# Altium schematic symbol library power_schi.SchLib: 20 symbols
Pins are listed as number, name and electrical type; pins without a type are passive.

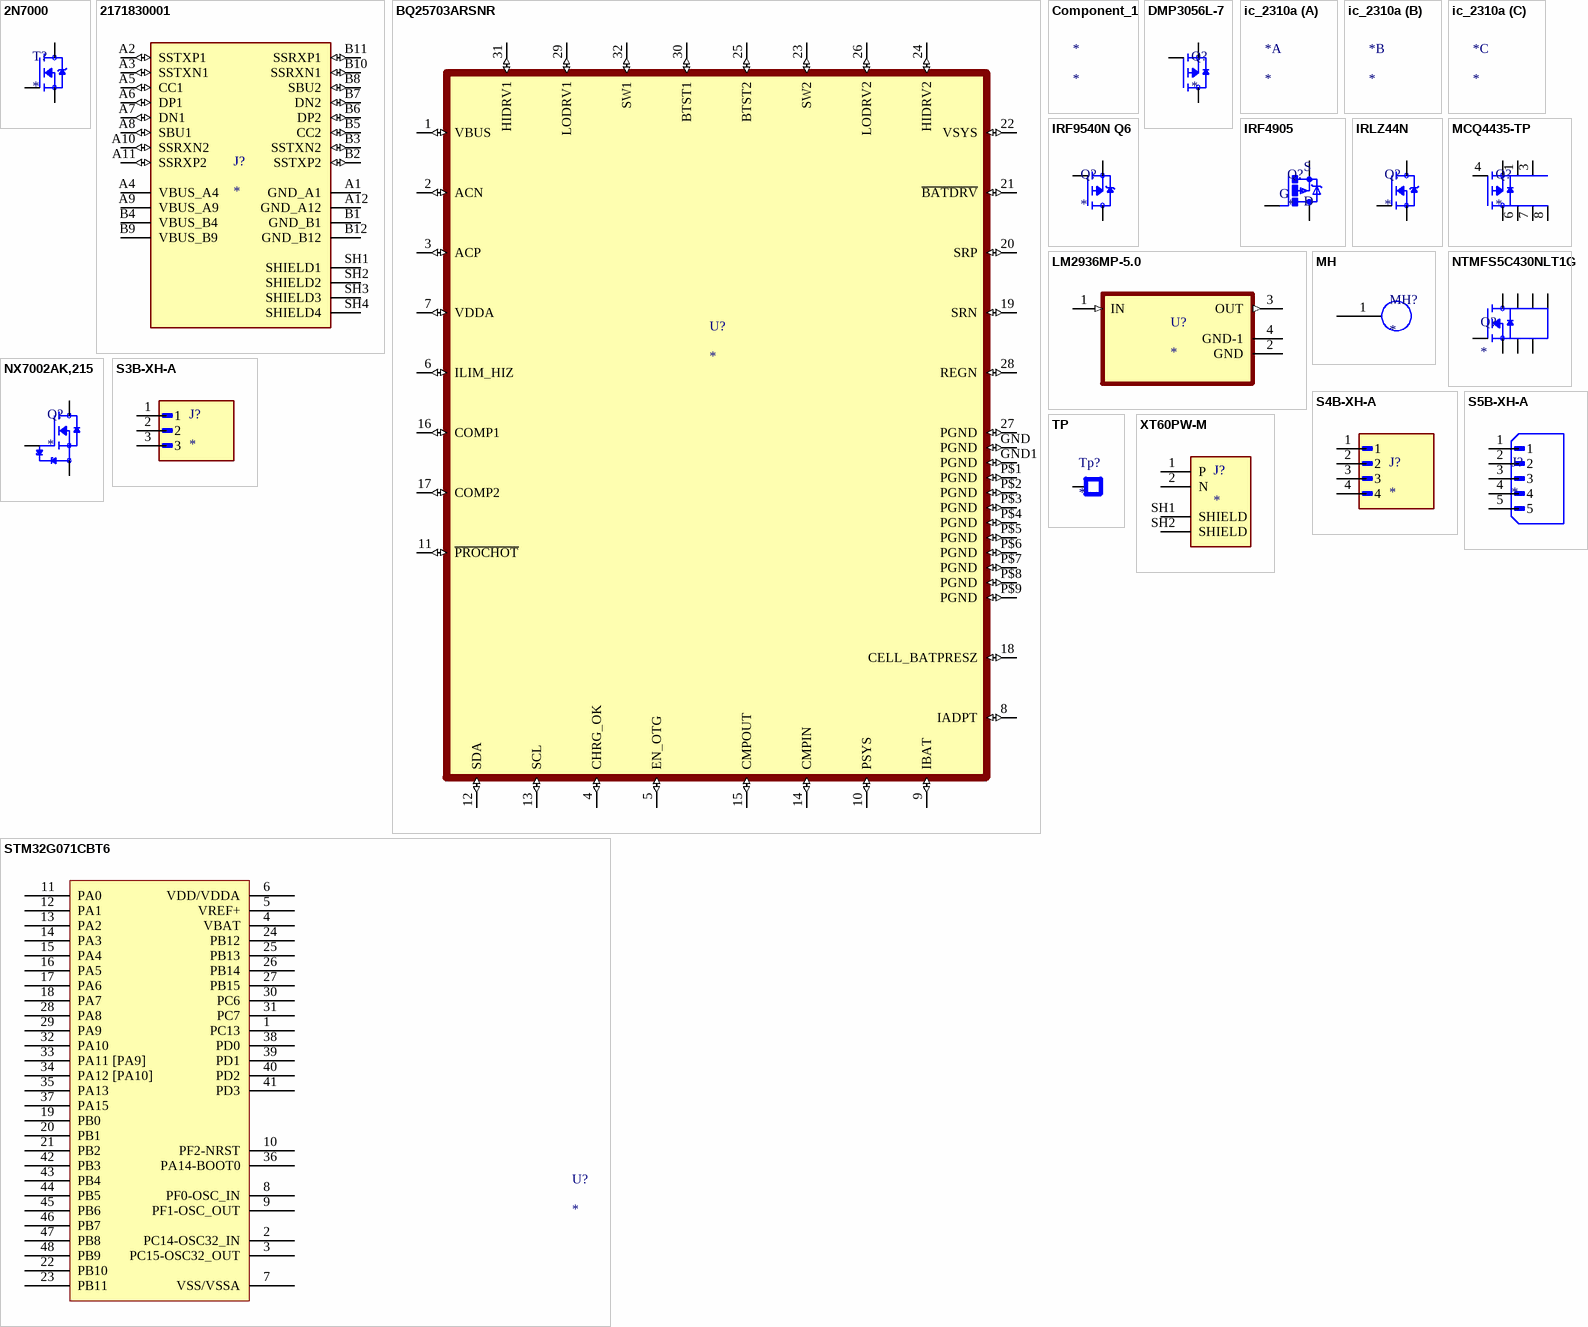
[diagram p0: symbols 2N7000 to XT60PW-M]

## 2N7000
designator T?
N-Channel 60 V 200mA (Ta) 400mW (Ta) Through Hole TO-92-3; MF: onsemi; MP: 2N7000; SnapEDA_Link: https://www.snapeda.com/parts/2N7000/Onsemi/view-part/?ref=snap; Package: E-PKG AXIAL-LEADED-2 ON Semiconductor; Value: *; Check_prices: https://www.snapeda.com/parts/2N7000/Onsemi/view-part/?ref=eda
footprint TO92
pins: 1 S, 2 G, 3 D

## 2171830001
designator J?
MF: {'manufacturer': u'Molex'}; MP: 2171830001; Package: None; Price: None; Value: *; Availability: Unavailable
footprint MOLEX_2171830001
pins: A1 GND_A1 (power), A2 SSTXP1 (io), A3 SSTXN1 (io), A4 VBUS_A4 (power), A5 CC1 (io), A6 DP1 (io), A7 DN1 (io), A8 SBU1 (io), A9 VBUS_A9 (power), A10 SSRXN2 (io), A11 SSRXP2 (io), A12 GND_A12 (power), B1 GND_B1 (power), B2 SSTXP2 (io), B3 SSTXN2 (io), B4 VBUS_B4 (power), B5 CC2 (io), B6 DP2 (io), B7 DN2 (io), B8 SBU2 (io), B9 VBUS_B9 (power), B10 SSRXN1 (io), B11 SSRXP1 (io), B12 GND_B12 (power), SH1 SHIELD1, SH2 SHIELD2, SH3 SHIELD3, SH4 SHIELD4

## BQ25703ARSNR
designator U?
MCU 32-bit ARM Cortex M0+ RISC 128KB Flash 1.8V/2.5V/3.3V 48-Pin LQFP Tray; Manufacturer: STMicroelectronics; Manufacturer Part Number: STM32G071CBT6; MF: Texas Instruments; MP: BQ25703ARSNR; ADC Channels (Resolution): 14-Ch 12-Bit; Core Architecture: ARM Cortex-M0+; DAC Channels (Resolution): 2-Ch 12-Bit; Data Bus Width: 32b; EEPROM Memory Size: 0B; Frequency: 64MHz; Interface: I2S; Clock Frequency: 48MHz; Max Junction Temperature (Tj): 105°C; Max Supply Current: 7mA; Max Supply Voltage: 3.6V; Min Supply Voltage: 1.7V; Number of A/D Converters: 1; Number of ADC Channels: 17; Number of Channels: 14; Number of D/A Converters: 2; Number of I/Os: 5; Number of Interrupts: 44; Number of Timers/Counters: 12; Number of UART Channels: 0; Number of USART Channels: 4; Operating Supply Voltage: 1.8V; Peripherals: POR, PWM, WDT; RAM Size: 36kB; SnapEDA_Link: https://www.snapeda.com/parts/BQ25703ARSNR/Texas+Instruments/view-part/?ref=snap; Package: WQFN-32 Texas Instruments; Value: *; Check_prices: https://www.snapeda.com/parts/BQ25703ARSNR/Texas+Instruments/view-part/?ref=eda; Supplier: Avnet; Supplier Part Number: 84AC2899; RoHS: Compliant; Category: Microcontrollers; Stock: 1757; Pricing: 1=3.97, 10=3.29, 25=3.08, 50=2.97, 100=2.86, 250=2.76, 500=2.69 (USD); Ambient Temperature Range High: 85°C; Case/Package: LFQFP; China RoHS: Compliant; Country of Origin: Mainland China; Export Control Classification Number (ECCN) Code: 3A991.A.2; Flash Memory Size: 128kB; Height: 1.6mm; Height - Seated (Max): 1.6mm; Harmonized Tariff Schedule (HTS) Code: 8542.31.00.25; Introduction Date: 2019-03-07; Length: 7mm; Lifecycle Status: Production; Max Operating Temperature: 85°C; Memory Size: 128kB; Memory Format: FLASH; Min Operating Temperature: -40°C; Number of I2C Channels: 2; Number of SPI Channels: 2; Number of Terminals: 48; Number of USB Channels: 2; REACH SVHC: Yes; Schedule B: 8542310000, 8542310000|8542310000, 8542310000|8542310000|8542310000|8542310000|8542310000; Terminal Pitch: 500µm; Width: 7mm; ComponentLink1URL: https://datasheet.octopart.com:443/STM32G071CBT6-STMicroelectronics-datasheet-159144893.pdf?src-supplier=IHS; ComponentLink1Description: https://datasheet.octopart.com:443/STM32G071CBT6-STMicroelectronics-datasheet-159144893.pdf?src-supplier=IHS; ComponentLink2URL: https://datasheet.octopart.com:443/STM32G071CBT6-STMicroelectronics-datasheet-132344621.pdf?src-supplier=ODG+(Origin+Data+Global); ComponentLink2Description: https://datasheet.octopart.com:443/STM32G071CBT6-STMicroelectronics-datasheet-132344621.pdf?src-supplier=ODG+(Origin+Data+Global); ComponentLink3URL: https://datasheet.octopart.com:443/STM32G071CBT6-STMicroelectronics-datasheet-130125765.pdf?src-supplier=element14+APAC; ComponentLink3Description: https://datasheet.octopart.com:443/STM32G071CBT6-STMicroelectronics-datasheet-130125765.pdf?src-supplier=element14+APAC
footprint BQ25703A_QFN-32
pins: 1 VBUS (io), 2 ACN (io), 3 ACP (io), 4 CHRG_OK (io), 5 EN_OTG (io), 6 ILIM_HIZ (io), 7 VDDA (io), 8 IADPT (io), 9 IBAT (io), 10 PSYS (io), 11 ~{PROCHOT} (io), 12 SDA (io), 13 SCL (io), 14 CMPIN (io), 15 CMPOUT (io), 16 COMP1 (io), 17 COMP2 (io), 18 CELL_BATPRESZ (io), 19 SRN (io), 20 SRP (io), 21 ~{BATDRV} (io), 22 VSYS (io), 23 SW2 (io), 24 HIDRV2 (io), 25 BTST2 (io), 26 LODRV2 (io), 27 PGND (io), 28 REGN (io), 29 LODRV1 (io), 30 BTST1 (io), 31 HIDRV1 (io), 32 SW1 (io), GND PGND (io), GND1 PGND (io), P$1 PGND (io), P$2 PGND (io), P$3 PGND (io), P$4 PGND (io), P$5 PGND (io), P$6 PGND (io), P$7 PGND (io), P$8 PGND (io), P$9 PGND (io)

## Component_1
designator *

## DMP3056L-7
designator Q?
DMP3056L Series 30 V 4.3 A P-Channel Enhancement Mode Mosfet - SOT-23-3; Manufacturer: Diodes Inc.; Manufacturer Part Number: DMP3056L-7; Continuous Drain Current (ID): 4.3A; Drain to Source Breakdown Voltage: -30V; Drain to Source Resistance: 50mΩ; Gate to Source Voltage (Vgs): 25V; Input Capacitance: 642pF; Max Junction Temperature (Tj): 150°C; Max Power Dissipation: 1.38W; Min Breakdown Voltage: 30V; Number of Channels: 1; Turn-Off Delay Time: 35.2ns; Turn-On Delay Time: 4.9ns; Supplier: Future Electronics; Supplier Part Number: DMP3056L-7; RoHS: Compliant; Category: MOSFETs; Stock: 498000; Pricing: 3000=0.0788, 6000=0.0775, 12000=0.0763, 15000=0.0758, 45000=0.0734 (USD); Case/Package: TO-236-3; China RoHS: Compliant; Country of Origin: Mainland China; Drain to Source Voltage (Vdss): -30V; Export Control Classification Number (ECCN) Code: EAR99; Height: 1.1mm; Introduction Date: 2015-01-05; Lifecycle Status: Production; Max Operating Temperature: 150°C; Min Operating Temperature: -55°C; Mounting Technology: Surface Mount; Number of Elements: 1; Number of Terminals: 3; Power Dissipation: 1.38W; Rds On Max: 50mΩ; REACH SVHC: Yes; Schedule B: 8541290080, 8541290080|8541290080|8541290080|8541290080|8541290080; ComponentLink1URL: https://datasheet.octopart.com:443/DMP3056L-7-Diodes-Inc.-datasheet-180553680.pdf?src-supplier=IHS; ComponentLink1Description: https://datasheet.octopart.com:443/DMP3056L-7-Diodes-Inc.-datasheet-180553680.pdf?src-supplier=IHS; ComponentLink2URL: https://datasheet.octopart.com:443/DMP3056L-7-Diodes-Inc.-datasheet-86509915.pdf?src-supplier=Diodes+Inc+SCT; ComponentLink2Description: https://datasheet.octopart.com:443/DMP3056L-7-Diodes-Inc.-datasheet-86509915.pdf?src-supplier=Diodes+Inc+SCT; ComponentLink3URL: https://sigma.octopart.com:443/138706058/technical_drawing/Diodes-Inc.-DMP3056L-7.pdf?src-supplier=Diodes+Inc+SCT; ComponentLink3Description: https://sigma.octopart.com:443/138706058/technical_drawing/Diodes-Inc.-DMP3056L-7.pdf?src-supplier=Diodes+Inc+SCT
footprint DMP3056L-7
pins: 1 G, 2 S, 3 D

## ic_2310a
designator *

## IRF4905
designator Q?
P-Channel 55 V 74A (Tc) 200W (Tc) Through Hole TO-220AB; MF: Infineon / IR; MP: IRF4905; SnapEDA_Link: https://www.snapeda.com/parts/IRF4905/Infineon/view-part/?ref=snap; Package: TO-263-3 Infineon / IR; Value: *; Check_prices: https://www.snapeda.com/parts/IRF4905/Infineon/view-part/?ref=eda
footprint TO220BH
pins: D, G, S

## IRF9540N Q6
designator Q?
P-Channel 100 V 23A (Tc) 3.1W (Ta), 110W (Tc); MF: Infineon Technologies; MP: IRF9540N; Value: *; Purchase-URL: https://pricing.snapeda.com/search/part/IRF9540N/?ref=eda; Package: TO-220 Infineon; Check_prices: https://www.snapeda.com/parts/IRF9540N/Infineon+Technologies/view-part/?ref=eda; SnapEDA_Link: https://www.snapeda.com/parts/IRF9540N/Infineon+Technologies/view-part/?ref=snap; Price: None; Availability: In Stock
footprint TO254P1041X444X1930-3
pins: 1 G, 2 D, 3 S

## IRLZ44N
designator Q?
N-Channel 55 V 47A (Tc) 3.8W (Ta), 110W (Tc) Surface Mount D2PAK; MP: IRLZ44N; MF: Infineon / IR; Package: TO-220-3 Infineon / IR; Availability: Not in stock; Value: *; Check_prices: https://www.snapeda.com/parts/IRLZ44N/Infineon/view-part/?ref=eda; Price: None; SnapEDA_Link: https://www.snapeda.com/parts/IRLZ44N/Infineon/view-part/?ref=snap
footprint TO254P1054X469X1930-3
pins: 1 G, 2 D, 3 S

## LM2936MP-5.0
designator U?
50-mA, 60-V, low-IQ, low-dropout voltage regulator with reverse voltage protection 4-SOT-223 -40 to 125; MF: Texas Instruments; MP: LM2936MP-5.0; SnapEDA_Link: https://www.snapeda.com/parts/LM2936MP-5.0/Texas+Instruments/view-part/?ref=snap; Package: SOT-223-4 Texas Instruments; Value: *; Check_prices: https://www.snapeda.com/parts/LM2936MP-5.0/Texas+Instruments/view-part/?ref=eda
footprint SOT230P700X180-4N
pins: 1 IN (in), 2 GND (power), 3 OUT (out), 4 GND-1 (power)

## MCQ4435-TP
designator Q?
Power Field-Effect Transistor, 9.1A I(D), 30V, 0.035ohm, 1-Element, P-Channel, Silicon, Metal-oxide Semiconductor FET; Manufacturer: MCC; Manufacturer Part Number: MCQ4435-TP; Drain to Source Resistance: 35mΩ; Max Power Dissipation: 1.4W; Number of Elements: 1; Supplier: DigiKey; Supplier Part Number: MCQ4435-TPMSCT-ND; RoHS: Compliant; Category: MOSFETs; Stock: 53319; Pricing: 1=1.25, 10=0.782, 100=0.5158, 500=0.40122, 1000=0.36432, 2000=0.33354 (USD); China RoHS: Compliant; Continuous Drain Current (ID): 9.1A; Country of Origin: Mainland China; Export Control Classification Number (ECCN) Code: EAR99; Introduction Date: 2016-10-10; Lifecycle Status: Production; Max Operating Temperature: 150°C; Min Breakdown Voltage: 30V; Min Operating Temperature: -55°C; Number of Terminals: 8; REACH SVHC: Yes
footprint MCQ4435-TP
pins: 1 D, 2 S, 3 D, 3 D, 4 G, 6 D, 7 D, 8 D

## MH
designator MH?
footprint MH
pins: 1

## NTMFS5C430NLT1G
designator Q?
Single N−Channel Power MOSFET 40V, 200A, 1.4mΩ Power MOSFET 40 V, 1.5 mohm, 200 A, Single N-Channel; Manufacturer: onsemi; Manufacturer Part Number: NTMFS5C430NLT1G; Manufacturer Lifecycle Status: ACTIVE; Drain to Source Resistance: 2.2mΩ; Gate to Source Voltage (Vgs): 20V; Input Capacitance: 4.3nF; Max Junction Temperature (Tj): 175°C; Max Power Dissipation: 110W; Number of Channels: 1; Power Dissipation: 3.8W; Rds On Max: 1.5mΩ; Threshold Voltage: 2V; Turn-Off Delay Time: 31ns; Turn-On Delay Time: 15ns; Supplier: Arrow Electronics; Supplier Part Number: NTMFS5C430NLT1G; RoHS: Compliant; Category: MOSFETs; Stock: 902; Pricing: 1=0.6739, 10=0.5731, 25=0.5703, 100=0.4878, 250=0.4866, 500=0.3888 (USD); Case/Package: DFN; China RoHS: Non-Compliant; Continuous Drain Current (ID): 200A; Country of Origin: Malaysia; Drain to Source Breakdown Voltage: 40V; Drain to Source Voltage (Vdss): 40V; Export Control Classification Number (ECCN) Code: EAR99; Height: 1.1mm; Introduction Date: 2016-02-26; Lead Free: Lead Free; Lifecycle Status: Production; Max Operating Temperature: 175°C; Min Breakdown Voltage: 40V; Min Operating Temperature: -55°C; Mounting Technology: Surface Mount; Number of Elements: 1; Number of Terminals: 5; Packaging: Tape & Reel (TR); REACH SVHC: No; Schedule B: 8541290080, 8541290080|8541290080|8541290080|8541290080|8541290080; ComponentLink1URL: https://datasheet.octopart.com:443/NTMFS5C430NLT1G-onsemi-datasheet-180968089.pdf?src-supplier=IHS; ComponentLink1Description: https://datasheet.octopart.com:443/NTMFS5C430NLT1G-onsemi-datasheet-180968089.pdf?src-supplier=IHS; ComponentLink2URL: https://datasheet.octopart.com:443/NTMFS5C430NLT1G-ON-Semiconductor-datasheet-43992632.pdf?src-supplier=Master+Electronics; ComponentLink2Description: https://datasheet.octopart.com:443/NTMFS5C430NLT1G-ON-Semiconductor-datasheet-43992632.pdf?src-supplier=Master+Electronics; ComponentLink3URL: https://datasheet.octopart.com:443/NTMFS5C430NLT1G-onsemi-datasheet-175422283.pdf?src-supplier=Upverter; ComponentLink3Description: https://datasheet.octopart.com:443/NTMFS5C430NLT1G-onsemi-datasheet-175422283.pdf?src-supplier=Upverter; ComponentLink4URL: https://sigma.octopart.com:443/138897947/technical_drawing/onsemi-NTMFS5C430NLT1G.pdf?src-supplier=Upverter; ComponentLink4Description: https://sigma.octopart.com:443/138897947/technical_drawing/onsemi-NTMFS5C430NLT1G.pdf?src-supplier=Upverter; ComponentLink5URL: https://datasheet.octopart.com:443/NTMFS5C430NLT1G-ON-Semiconductor-datasheet-139013173.pdf?src-supplier=onsemi; ComponentLink5Description: https://datasheet.octopart.com:443/NTMFS5C430NLT1G-ON-Semiconductor-datasheet-139013173.pdf?src-supplier=onsemi; ComponentLink6URL: https://datasheet.octopart.com:443/NTMFS5C430NLT1G-ON-Semiconductor-datasheet-94100665.pdf?src-supplier=Farnell; ComponentLink6Description: https://datasheet.octopart.com:443/NTMFS5C430NLT1G-ON-Semiconductor-datasheet-94100665.pdf?src-supplier=Farnell; ComponentLink7URL: http://sigma.octopart.com:80/150629241/rohs_statement/ON-Semiconductor-NTMFS5C430NLT1G.pdf?src-supplier=Compliance+Statements; ComponentLink7Description: http://sigma.octopart.com:80/150629241/rohs_statement/ON-Semiconductor-NTMFS5C430NLT1G.pdf?src-supplier=Compliance+Statements; ComponentLink8URL: http://sigma.octopart.com:80/reach_statement/ON-Semiconductor-company-79.pdf?src-supplier=Compliance+Statements; ComponentLink8Description: http://sigma.octopart.com:80/reach_statement/ON-Semiconductor-company-79.pdf?src-supplier=Compliance+Statements; ComponentLink9URL: https://octopart.com:443/opatz8j6/c1?t=NWmqL99G2-W9prDowcZFTES89rSlO5_ahbMMnXa9jgTGjAZq3Tu3qxPrR_zKaxQ4fzwoZOAOQ97pZtHJjZ2r4oPJnbprKltYi7xxsuPDViqKtQ69mXZcuniw5MhRB5cZly7TbsWJlJUzdqx7qg45fnIthR9NZLG6iIkqx3CLAOHAQagh_8yNdSGE_WiivedQEA5tzcqP4qKsM9O9hSkYo1Zccp7PIltINwgyLGFK-nYnmhMnr0Y68RefGrPMX6-v45r3_qj8RGi9VqWYqXRIA0teFBjDCOUMjqBSonSQXOOXvWM-MzcPskrBg0uwX2-t9hJvN3QbHW5I6QfeM_o8FyWc9afrMjIPORVsxcK1suEZlPk&src-supplier=Compliance+Statements; ComponentLink9Description: https://octopart.com:443/opatz8j6/c1?t=NWmqL99G2-W9prDowcZFTES89rSlO5_ahbMMnXa9jgTGjAZq3Tu3qxPrR_zKaxQ4fzwoZOAOQ97pZtHJjZ2r4oPJnbprKltYi7xxsuPDViqKtQ69mXZcuniw5MhRB5cZly7TbsWJlJUzdqx7qg45fnIthR9NZLG6iIkqx3CLAOHAQagh_8yNdSGE_WiivedQEA5tzcqP4qKsM9O9hSkYo1Zccp7PIltINwgyLGFK-nYnmhMnr0Y68RefGrPMX6-v45r3_qj8RGi9VqWYqXRIA0teFBjDCOUMjqBSonSQXOOXvWM-MzcPskrBg0uwX2-t9hJvN3QbHW5I6QfeM_o8FyWc9afrMjIPORVsxcK1suEZlPk&src-supplier=Compliance+Statements; ComponentLink10URL: https://octopart.com:443/opatz8j6/c1?t=8C0vKJqt8ltBWpJYG3N2D7s-J0vY4mUBgJSlygBcMH8cSY4hipBL2RmaQX-jkg46kmRhV91cbqsEAaCKIp2BZellOiFbjTti4ML5T2enop8f7fKoFQyff1PvM48Ct7ybvgv2tSrYwsostDb8gnotY_puLyOxuaH09afz0B6ZpSI1n-5LnCnXrikyxjX-BxvNd2ziSaXACLd1jTG62GdFTGFhAD3H1nBJTgdQar12yKbP4sr1WgItNfDNnEh8m2Rbd0Za5VlrBT1WcH0w79q9ZRh_zD1aCP8IXFD_xcbca9Tx4pU70iH1kKKDCBiJu-ulgV4gloW0cGvoof8u3kTQ_pFOReiXKHhNaw8xeemBgzYe5g&src-supplier=Compliance+Statements; ComponentLink10Description: https://octopart.com:443/opatz8j6/c1?t=8C0vKJqt8ltBWpJYG3N2D7s-J0vY4mUBgJSlygBcMH8cSY4hipBL2RmaQX-jkg46kmRhV91cbqsEAaCKIp2BZellOiFbjTti4ML5T2enop8f7fKoFQyff1PvM48Ct7ybvgv2tSrYwsostDb8gnotY_puLyOxuaH09afz0B6ZpSI1n-5LnCnXrikyxjX-BxvNd2ziSaXACLd1jTG62GdFTGFhAD3H1nBJTgdQar12yKbP4sr1WgItNfDNnEh8m2Rbd0Za5VlrBT1WcH0w79q9ZRh_zD1aCP8IXFD_xcbca9Tx4pU70iH1kKKDCBiJu-ulgV4gloW0cGvoof8u3kTQ_pFOReiXKHhNaw8xeemBgzYe5g&src-supplier=Compliance+Statements
footprint NTMFS5C430NL
pins: 1 S, 2 S, 3 S, 3_1 D2, 4 G, 5 D, 6 D, 7 D, 8

## NX7002AK,215
designator Q?
N-Channel 60 V 190mA (Ta) 265mW (Ta), 1.33W (Tc) Surface Mount TO-236AB; MF: Nexperia USA Inc.; MP: NX7002AK,215; SnapEDA_Link: https://www.snapeda.com/parts/NX7002AK,215/Nexperia/view-part/?ref=snap; Package: SC-59 Nexperia USA; Value: *; Check_prices: https://www.snapeda.com/parts/NX7002AK,215/Nexperia/view-part/?ref=eda
footprint SOT95P230X110-3N
pins: 1 G, 2 S, 3 D

## S3B-XH-A
designator J?
MP: S3B-XH-A; Package: None; Price: None; Value: *; Availability: Unavailable
footprint JST_S3B-XH-A
pins: 1, 2, 3

## S4B-XH-A
designator J?
MP: S4B-XH-A; Package: None; Price: None; Value: *; Availability: Unavailable
footprint JST_S4B-XH-A
pins: 1, 2, 3, 4

## S5B-XH-A
designator J?
Connector Header Through Hole, Right Angle 5 position 0.098 (2.50mm); MF: JST Sales; MP: S5B-XH-A; SnapEDA_Link: https://www.snapeda.com/parts/S5B-XH-A/JST+Sales+America+Inc./view-part/?ref=snap; Package: None; Value: *; Check_prices: https://www.snapeda.com/parts/S5B-XH-A/JST+Sales+America+Inc./view-part/?ref=eda
footprint JST_S5B-XH-A
pins: 1, 2, 3, 4, 5

## STM32G071CBT6
designator U?
MCU 32-bit ARM Cortex M0+ RISC 128KB Flash 1.8V/2.5V/3.3V 48-Pin LQFP Tray; Manufacturer: STMicroelectronics; Manufacturer Part Number: STM32G071CBT6; ADC Channels (Resolution): 14-Ch 12-Bit; Core Architecture: ARM Cortex-M0+; DAC Channels (Resolution): 2-Ch 12-Bit; Data Bus Width: 32b; EEPROM Memory Size: 0B; Frequency: 64MHz; Interface: I2S; Clock Frequency: 48MHz; Max Junction Temperature (Tj): 105°C; Max Supply Current: 7mA; Max Supply Voltage: 3.6V; Min Supply Voltage: 1.7V; Number of A/D Converters: 1; Number of ADC Channels: 17; Number of Channels: 14; Number of D/A Converters: 2; Number of I/Os: 5; Number of Interrupts: 44; Number of Timers/Counters: 12; Number of UART Channels: 0; Number of USART Channels: 4; Operating Supply Voltage: 1.8V; Peripherals: POR, PWM, WDT; RAM Size: 36kB; Supplier: Avnet; Supplier Part Number: 84AC2899; RoHS: Compliant; Category: Microcontrollers; Stock: 1757; Pricing: 1=3.97, 10=3.29, 25=3.08, 50=2.97, 100=2.86, 250=2.76, 500=2.69 (USD); Ambient Temperature Range High: 85°C; Case/Package: LFQFP; China RoHS: Compliant; Country of Origin: Mainland China; Export Control Classification Number (ECCN) Code: 3A991.A.2; Flash Memory Size: 128kB; Height: 1.6mm; Height - Seated (Max): 1.6mm; Harmonized Tariff Schedule (HTS) Code: 8542.31.00.25; Introduction Date: 2019-03-07; Length: 7mm; Lifecycle Status: Production; Max Operating Temperature: 85°C; Memory Size: 128kB; Memory Format: FLASH; Min Operating Temperature: -40°C; Number of I2C Channels: 2; Number of SPI Channels: 2; Number of Terminals: 48; Number of USB Channels: 2; REACH SVHC: Yes; Schedule B: 8542310000, 8542310000|8542310000, 8542310000|8542310000|8542310000|8542310000|8542310000; Terminal Pitch: 500µm; Width: 7mm; ComponentLink1URL: https://datasheet.octopart.com:443/STM32G071CBT6-STMicroelectronics-datasheet-159144893.pdf?src-supplier=IHS; ComponentLink1Description: https://datasheet.octopart.com:443/STM32G071CBT6-STMicroelectronics-datasheet-159144893.pdf?src-supplier=IHS; ComponentLink2URL: https://datasheet.octopart.com:443/STM32G071CBT6-STMicroelectronics-datasheet-132344621.pdf?src-supplier=ODG+(Origin+Data+Global); ComponentLink2Description: https://datasheet.octopart.com:443/STM32G071CBT6-STMicroelectronics-datasheet-132344621.pdf?src-supplier=ODG+(Origin+Data+Global); ComponentLink3URL: https://datasheet.octopart.com:443/STM32G071CBT6-STMicroelectronics-datasheet-130125765.pdf?src-supplier=element14+APAC; ComponentLink3Description: https://datasheet.octopart.com:443/STM32G071CBT6-STMicroelectronics-datasheet-130125765.pdf?src-supplier=element14+APAC
footprint QFP50P900X900X160-48N
pins: 1 PC13, 2 PC14-OSC32_IN, 3 PC15-OSC32_OUT, 4 VBAT, 5 VREF+, 6 VDD/VDDA, 7 VSS/VSSA, 8 PF0-OSC_IN, 9 PF1-OSC_OUT, 10 PF2-NRST, 11 PA0, 12 PA1, 13 PA2, 14 PA3, 15 PA4, 16 PA5, 17 PA6, 18 PA7, 19 PB0, 20 PB1, 21 PB2, 22 PB10, 23 PB11, 24 PB12, 25 PB13, 26 PB14, 27 PB15, 28 PA8, 29 PA9, 30 PC6, 31 PC7, 32 PA10, 33 PA11 [PA9], 34 PA12 [PA10], 35 PA13, 36 PA14-BOOT0, 37 PA15, 38 PD0, 39 PD1, 40 PD2, 41 PD3, 42 PB3, 43 PB4, 44 PB5, 45 PB6, 46 PB7, 47 PB8, 48 PB9

## TP
designator Tp?
footprint Tp
pins: 1

## XT60PW-M
designator J?
Socket, DC supply, male, PIN: 2; MF: AMASS; MP: XT60PW-M; SnapEDA_Link: https://www.snapeda.com/parts/XT60PW-M/AMASS/view-part/?ref=snap; Package: Package; Value: *; Check_prices: https://www.snapeda.com/parts/XT60PW-M/AMASS/view-part/?ref=eda
footprint AMASS_XT60PW-M
footprint AMASS_XT60PW-M
pins: 1 P, 2 N, SH1 SHIELD, SH2 SHIELD